# Altium footprint library PcbLib1.PcbLib: 21 footprints (part 2 of 2)
Each footprint in its own frame and in the unit in brackets; x right, y up, seen from the top. Pads: shape width x height; smd on the part's side, far side on the other; paste and mask are expansions set on the pad; w line width, h text height; cw(c..) or ccw(c..) is an arc to the next point about the centre after c.
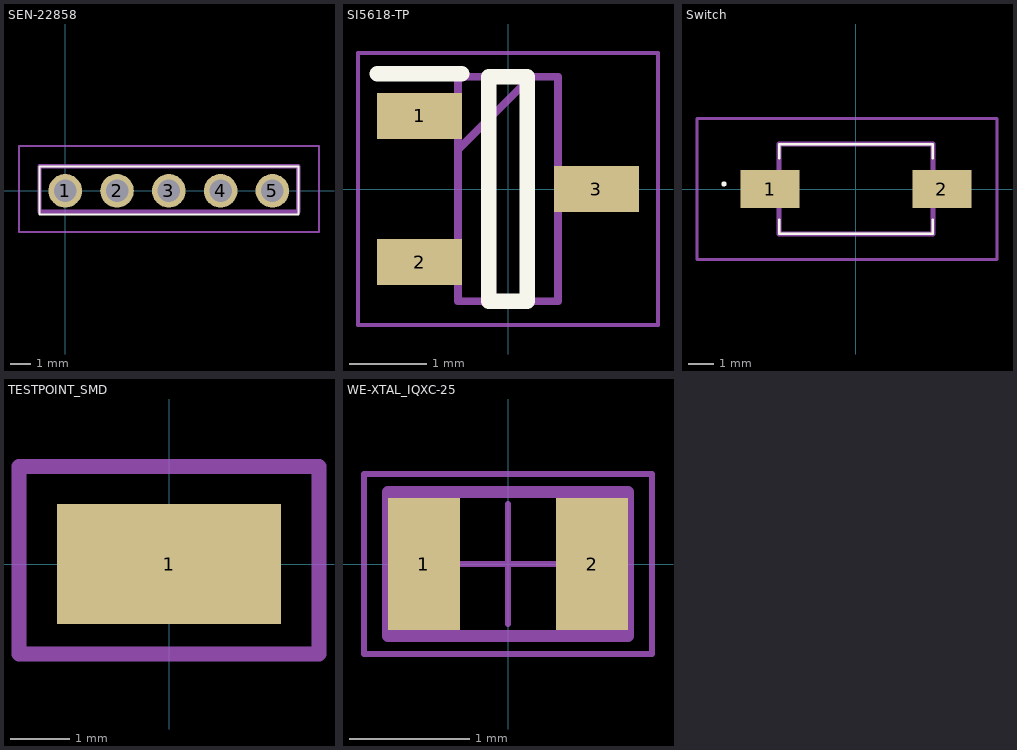
[diagram p1: the footprints below, top view; thin cyan lines are the x and y axes]

## SEN-22858 [mm]
pads (5):
  round 1.65 hole 1.1: 1(0,0) 2(2.54,0) 3(5.08,0) 4(7.62,0) 5(10.16,0)
Top Overlay:
  lines w0.1: 11.43,1.168 11.43,0.027 11.43,-1.15 -1.27,-1.15 -1.27,1.205 11.43,1.205
Mechanical 13:
  lines w0.2: 11.43,-1.025 -1.27,-1.025 -1.27,1.205 11.43,1.205 ; 11.43,-1.016 11.43,1.143
Mechanical 15:
  lines w0.1: 12.446,2.159 12.446,0.254 12.446,-2.025 -2.27,-2.025 -2.27,2.205 12.446,2.205
3D body: height 7.55, standoff 6, extent -7.613,-1.969 17.787,24.862

## SI5618-TP [mm]
pads (3):
  rect 1.1x0.6 smd: 1(-1.15,0.95) 2(-1.15,-0.95) 3(1.15,0)
Top Overlay:
  lines w0.2: -1.7,1.5 -0.6,1.5 ; -0.25,-1.46 0.25,-1.46 0.25,1.46 -0.25,1.46 -0.25,-1.46
Mechanical 15:
  lines w0.1: -0.65,0.51 0.3,1.46 ; -0.65,-1.46 0.65,-1.46 0.65,1.46 -0.65,1.46 -0.65,-1.46
Mechanical 20:
  lines w0.05: -1.95,-1.77 1.95,-1.77 1.95,1.77 -1.95,1.77 -1.95,-1.77

## Switch [mm]
pads (2):
  rect 2.3x1.5 smd: 1(-3.35,0) 2(3.35,0)
Top Overlay:
  lines w0.1: -3,-1.2 -3,-1.75 3,-1.75 3,-1.2 ; -3,1.2 -3,1.75 3,1.75 3,1.2 ; -5.2,0.2 ccw(c-5.15,0.2) -5.1,0.2 ccw(c-5.15,0.2) -5.2,0.2
Mechanical 15:
  lines w0.2: -3,-1.75 3,-1.75 3,1.75 -3,1.75 -3,-1.75
Mechanical 20:
  lines w0.1: -6.2,-2.75 5.5,-2.75 5.5,2.75 -6.2,2.75 -6.2,-2.75

## TESTPOINT_SMD [mm]
pads (1):
  rect 3.8x2.03 smd: 1(0,0)
Mechanical 15:
  lines w0.254: -2.54,-1.524 2.54,-1.524 2.54,1.651 -2.54,1.651 -2.54,-1.524
3D body "testpoint.STEP": height 2.29, standoff 0, extent -1.905,-1.016 1.905,1.014

## WE-XTAL_IQXC-25 [mm] "Quartz Crystal, size IQXC-25, body 2x1mm"
height 0.6
pads (2):
  rect 0.6x1.1 smd: 1(-0.7,0) 2(0.7,0)
Top Courtyard:
  lines w0.05: -0.5,0 0.5,0 ; 0,-0.5 0,0.5 ; -1.2,-0.75 -1.2,0.75 1.2,0.75 1.2,-0.75 -1.2,-0.75
Top 3D Body:
  lines w0.1: -1,-0.6 -1,0.6 1,0.6 1,-0.6 -1,-0.6
Top Designator:
  text ".Designator" at -3.499,-0.233 h0.7
Top Component Outline:
  lines w0.1: -1,-0.6 1,-0.6 1,0.6 -1,0.6 -1,-0.6
3D body "FrqXTAL_IQXC-25.stp": height 0.55, standoff 0, extent -1,-0.6 1,0.6